# Altium footprint library PCB - CONNECTOR - SAMTEC IPL1-113-01-XX-D-K.PCBLIB: 1 footprints
Each footprint in its own frame and in the unit in brackets; x right, y up, seen from the top. Pads: shape width x height; smd on the part's side, far side on the other; paste and mask are expansions set on the pad; w line width, h text height; cw(c..) or ccw(c..) is an arc to the next point about the centre after c.
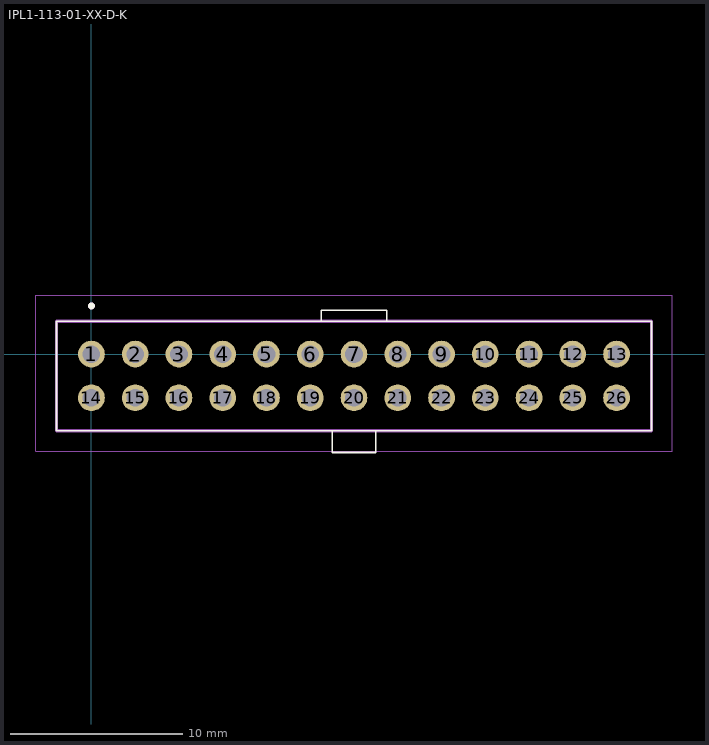
[diagram p0: the footprint, top view; thin cyan lines are the x and y axes]

## IPL1-113-01-XX-D-K [mm]
pads (26):
  round 1.55 hole 1.02: 1(0,0) 2(2.54,0) 3(5.08,0) 4(7.62,0) 5(10.16,0) 6(12.7,0) 7(15.24,0) 8(17.78,0) 9(20.32,0) 10(22.86,0) 11(25.4,0) 12(27.94,0) 13(30.48,0) 14(0,-2.54) 15(2.54,-2.54) 16(5.08,-2.54) 17(7.62,-2.54) 18(10.16,-2.54) 19(12.7,-2.54) 20(15.24,-2.54) 21(17.78,-2.54) 22(20.32,-2.54) 23(22.86,-2.54) 24(25.4,-2.54) 25(27.94,-2.54) 26(30.48,-2.54)
Top Overlay:
  circle w0.2: c0,2.794 r0.1
  lines w0.1: 13.335,1.905 13.335,2.54 17.145,2.54 17.145,1.905 ; 13.97,-4.445 13.97,-5.715 16.51,-5.715 16.51,-4.445 ; -2.03,-4.445 -2.03,1.905 32.51,1.905 32.51,-4.445 -2.03,-4.445
Top Assembly:
  circle w0.2: c0,2.794 r0.1
  lines w0.2: -2.03,-4.445 32.51,-4.445 32.51,1.905 -2.03,1.905 -2.03,-4.445
Top Courtyard:
  lines w0.05: -3.23,-5.645 33.71,-5.645 33.71,3.4 -3.23,3.4 -3.23,-5.645
Top Designator:
  text ".Designator" at 29.083,4.064 h1
Top Value (Mech13):
  text ".Comment" at 29.083,5.207 h1
3D body "IPL1-113-01-L-D-K.stp": height 8.13, standoff -3.05, extent -2.032,-5.461 32.512,2.413